# Altium footprint library Bemine-neo_PCB.PcbLib: 18 footprints (part 1 of 2)
Each footprint in its own frame and in the unit in brackets; x right, y up, seen from the top. Pads: shape width x height; smd on the part's side, far side on the other; paste and mask are expansions set on the pad; w line width, h text height; cw(c..) or ccw(c..) is an arc to the next point about the centre after c.
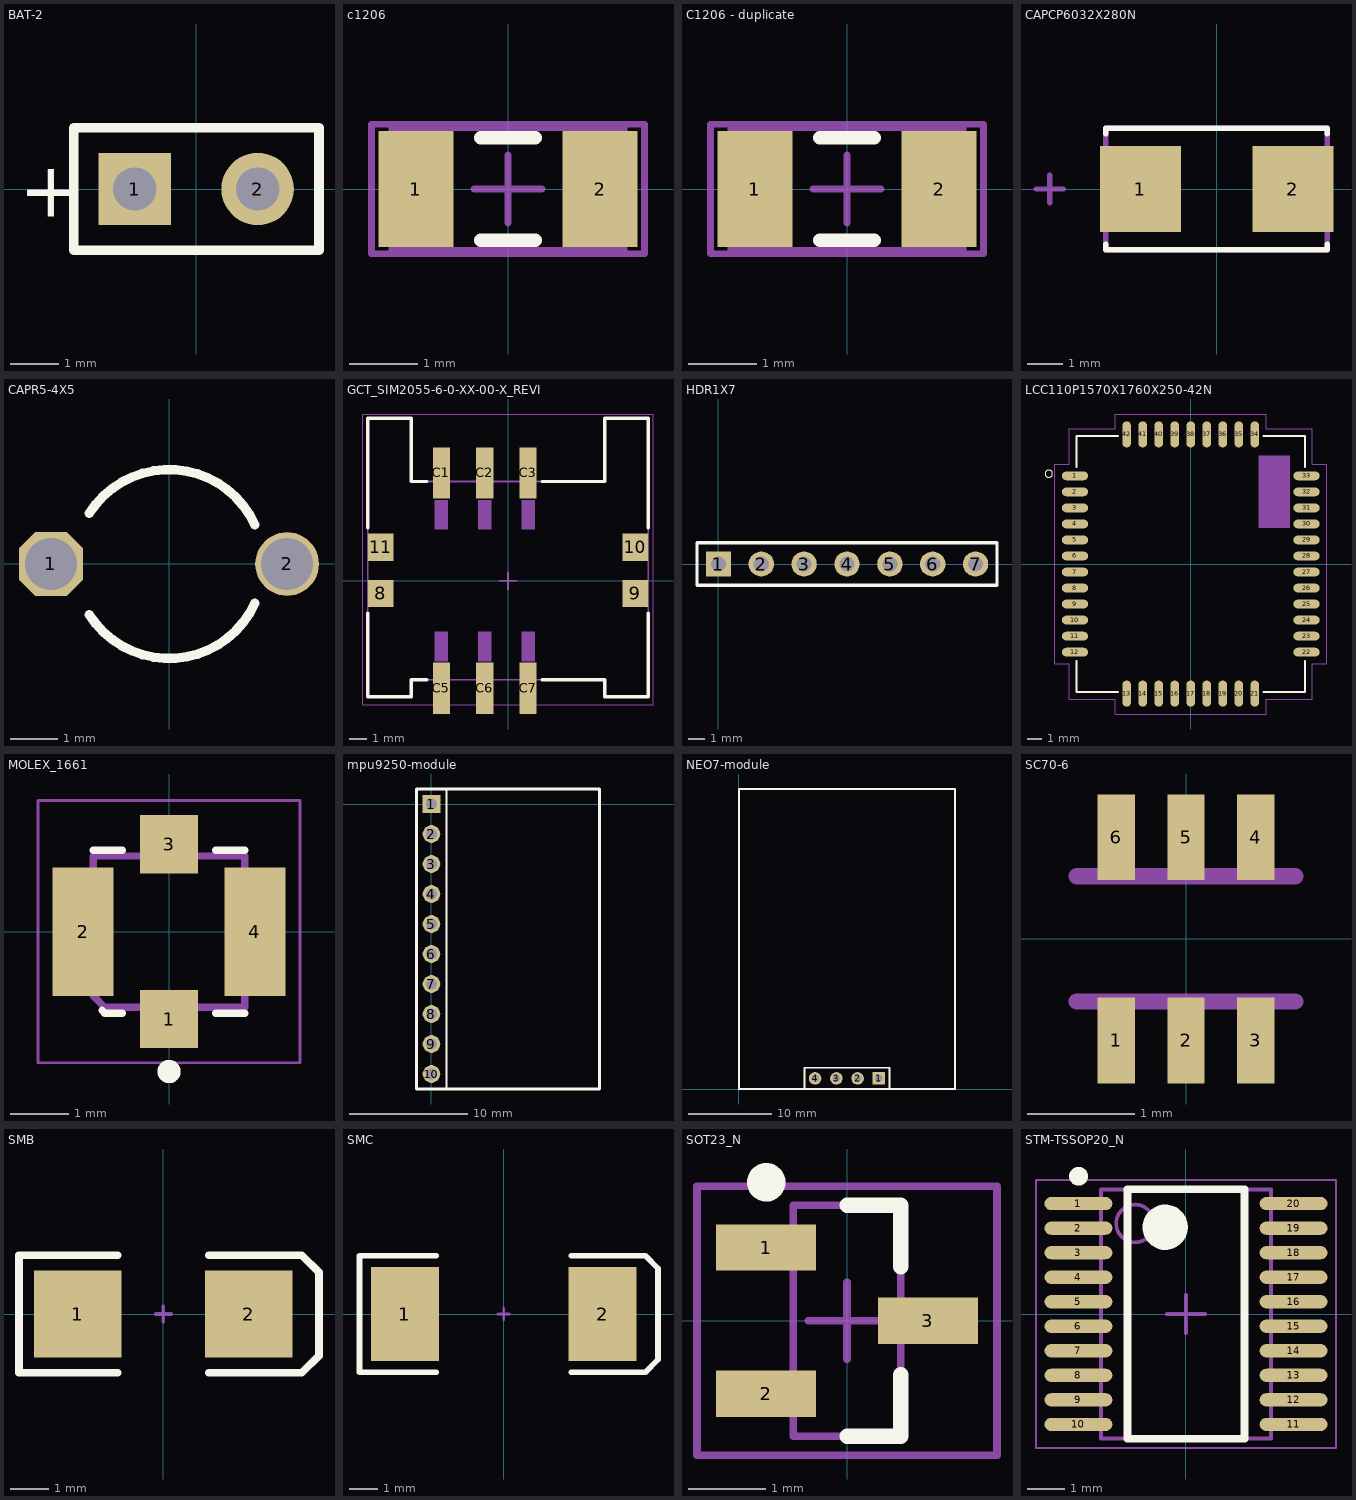
[diagram p0: the footprints below, top view; thin cyan lines are the x and y axes]

## BAT-2 [mm]
pads (2):
  rect 1.5x1.5 hole 0.9: 1(-1.27,0)
  round 1.5 hole 0.9: 2(1.27,0)
Top Overlay:
  lines w0.2: -2.54,-1.27 -2.54,1.27 2.54,1.27 2.54,-1.27 -2.54,-1.27
  text "+" at -3.67,-0.577 h1.15

## c1206 [mm]
pads (2):
  rect 1.1x1.7 smd: 1(-1.35,0) 2(1.35,0)
Top Overlay:
  lines w0.2: -0.4,-0.75 0.4,-0.75 ; -0.4,0.75 0.4,0.75
Mechanical 13:
  lines w0.1: -1.7,-0.9 1.7,-0.9 1.7,0.9 -1.7,0.9 -1.7,-0.9
Mechanical 15:
  lines w0.1: -0.5,0 0.5,0 ; 0,-0.5 0,0.5 ; -2,-0.95 2,-0.95 2,0.95 -2,0.95 -2,-0.95
3D body: height 1.3, standoff 0, extent -1.7,-0.9 1.7,0.9

## C1206 - duplicate [mm]
pads (2):
  rect 1.1x1.7 smd: 1(-1.35,0) 2(1.35,0)
Top Overlay:
  lines w0.2: -0.4,-0.75 0.4,-0.75 ; -0.4,0.75 0.4,0.75
Mechanical 13:
  lines w0.1: -1.7,-0.9 1.7,-0.9 1.7,0.9 -1.7,0.9 -1.7,-0.9
Mechanical 15:
  lines w0.1: -0.5,0 0.5,0 ; 0,-0.5 0,0.5 ; -2,-0.95 2,-0.95 2,0.95 -2,0.95 -2,-0.95
3D body: height 1.3, standoff 0, extent -1.7,-0.9 1.7,0.9

## CAPCP6032X280N [mil]
pads (2):
  rect 89x95 smd: 1(-84,0) 2(84,0)
Top Overlay:
  lines w6: -122,-61 -122,-67 122,-67 122,-61 ; -122,61 -122,67 122,67 122,61
Mechanical 1:
  lines w6: -199,0 -169,0 ; -184,-15 -184,15 ; -122,-67 -122,67 122,67 122,-67 -122,-67

## CAPR5-4X5 [mm]
pads (2):
  oct 1.35x1.35 hole 1.1: 1(-2.5,0)
  round 1.35 hole 1.1: 2(2.5,0)
Top Overlay:
  lines w0.2: -1.687,-1.075 ccw(c0,0) 1.819,-0.832 ; -1.687,1.075 cw(c0,0) 1.819,0.832

## GCT_SIM2055-6-0-XX-00-X_REVI [mm]
pads (10):
  rect 1.5x1.6 smd: 8(-7.45,-0.75) 9(7.45,-0.75) 10(7.45,1.95) 11(-7.45,1.95)
  rect 1x3 smd: C1(-3.9,6.3) C2(-1.36,6.3) C3(1.18,6.3) C5(-3.9,-6.3) C6(-1.36,-6.3) C7(1.18,-6.3)
Top Overlay:
  lines w0.2: -8.2,-1.9 -8.2,-6.8 -5.65,-6.8 -5.65,-5.8 -4.75,-5.8 ; -8.2,3.1 -8.2,9.5 -5.65,9.5 -5.65,5.8 -4.75,5.8 ; 2,-5.8 5.65,-5.8 5.65,-6.8 8.2,-6.8 8.2,-1.9 ; 2,5.8 5.65,5.8 5.65,9.5 8.2,9.5 8.2,3.1
Mechanical 4:
  lines w0.1: -8.2,-6.8 -8.2,9.5 ; -8.2,-6.8 -5.65,-6.8 ; -8.2,-6.8 -8.2,9.5 ; -8.2,-6.8 -5.65,-6.8 ; -8.2,9.5 -5.65,9.5 ; -8.2,9.5 -5.65,9.5 ; -5.65,-6.8 -5.65,-5.8 ; -5.65,-6.8 -5.65,-5.8 ; -5.65,-5.8 5.65,-5.8 ; -5.65,-5.8 5.65,-5.8 ; -5.65,5.8 -5.65,9.5 ; -5.65,5.8 5.65,5.8 ; -5.65,5.8 -5.65,9.5 ; -5.65,5.8 5.65,5.8 ; 5.65,-6.8 8.2,-6.8 ; 5.65,-6.8 5.65,-5.8 ; 5.65,-6.8 8.2,-6.8 ; 5.65,-6.8 5.65,-5.8 ; 5.65,5.8 5.65,9.5 ; 5.65,5.8 5.65,9.5 ; 5.65,9.5 8.2,9.5 ; 5.65,9.5 8.2,9.5 ; 8.2,-6.8 8.2,9.5 ; 8.2,-6.8 8.2,9.5
Mechanical 16:
  region: 0.805,-4.7 1.555,-4.7 1.555,-3 0.805,-3
  region: -1.735,3 -0.985,3 -0.985,4.7 -1.735,4.7
  region: -4.275,3 -3.525,3 -3.525,4.7 -4.275,4.7
  region: -1.735,-4.7 -0.985,-4.7 -0.985,-3 -1.735,-3
  region: 0.805,3 1.555,3 1.555,4.7 0.805,4.7
  region: -4.275,-4.7 -3.525,-4.7 -3.525,-3 -4.275,-3
  lines w0.05: -8.5,-7.25 -8.5,9.75 8.5,9.75 8.5,-7.25 -8.5,-7.25
  lines w0.1: -0.5,0 0.5,0 ; 0,-0.5 0,0.5

## HDR1X7 [mm]
pads (7):
  rect 1.5x1.5 hole 0.9: 1(0,0)
  round 1.5 hole 0.9: 2(2.54,0) 3(5.08,0) 4(7.62,0) 5(10.16,0) 6(12.7,0) 7(15.24,0)
Top Overlay:
  lines w0.2: -1.27,-1.27 -1.27,1.27 16.51,1.27 16.51,-1.27 -1.27,-1.27

## LCC110P1570X1760X250-42N [mm]
pads (42):
  oval 1.8x0.6 smd: 1(-7.95,6.05) 2(-7.95,4.95) 3(-7.95,3.85) 4(-7.95,2.75) 5(-7.95,1.65) 6(-7.95,0.55) 7(-7.95,-0.55) 8(-7.95,-1.65) 9(-7.95,-2.75) 10(-7.95,-3.85) 11(-7.95,-4.95) 12(-7.95,-6.05) 22(7.95,-6.05) 23(7.95,-4.95) 24(7.95,-3.85) 25(7.95,-2.75) 26(7.95,-1.65) 27(7.95,-0.55) 28(7.95,0.55) 29(7.95,1.65) 30(7.95,2.75) 31(7.95,3.85) 32(7.95,4.95) 33(7.95,6.05)
  oval 0.6x1.8 smd: 13(-4.4,-8.9) 14(-3.3,-8.9) 15(-2.2,-8.9) 16(-1.1,-8.9) 17(0,-8.9) 18(1.1,-8.9) 19(2.2,-8.9) 20(3.3,-8.9) 21(4.4,-8.9) 34(4.4,8.9) 35(3.3,8.9) 36(2.2,8.9) 37(1.1,8.9) 38(0,8.9) 39(-1.1,8.9) 40(-2.2,8.9) 41(-3.3,8.9) 42(-4.4,8.9)
Top Overlay:
  circle w0: c-9.75,6.2 r0.254
  lines w0.127: -7.85,-6.65 -7.85,-8.8 -5,-8.8 ; -7.85,6.65 -7.85,8.8 -5,8.8 ; 5,-8.8 7.85,-8.8 7.85,-6.65 ; 5,8.8 7.85,8.8 7.85,6.65
Mechanical 4:
  region: 4.656,7.43 6.8,7.43 6.8,2.483 4.656,2.483
  region: 4.656,7.43 6.8,7.43 6.8,2.483 4.656,2.483
Mechanical 16:
  region: 4.658,7.43 6.8,7.43 6.8,2.484 4.658,2.484
  lines w0.05: -9.35,-6.85 -8.35,-6.85 -8.35,-9.3 -5.2,-9.3 -5.2,-10.3 5.2,-10.3 5.2,-9.3 8.35,-9.3 8.35,-6.85 9.35,-6.85 9.35,6.85 8.35,6.85 8.35,9.3 5.2,9.3 5.2,10.3 -5.2,10.3 -5.2,9.3 -8.35,9.3 -8.35,6.85 -9.35,6.85 -9.35,-6.85

## MOLEX_1661 [mm]
pads (4):
  rect 1x1 smd: 1(0,-1.5) 3(0,1.5)
  rect 1.05x2.2 smd: 2(-1.475,0) 4(1.475,0)
Top Overlay:
  circle w0.2: c0,-2.4 r0.1
  lines w0.127: -1.3,1.4 -0.8,1.4 ; -1.15,-1.35 -1.1,-1.4 -0.8,-1.4 ; 0.8,-1.4 1.3,-1.4 ; 0.8,1.4 1.3,1.4
Mechanical 4:
  lines w0.127: -1.3,-1.1 -1.3,1.3 ; -1.3,-1.1 -1.1,-1.3 ; -1.3,-1.1 -1.3,1.3 ; -1.3,-1.1 -1.1,-1.3 ; -1.3,1.3 1.3,1.3 ; -1.3,1.3 1.3,1.3 ; -1.1,-1.3 1.3,-1.3 ; -1.1,-1.3 1.3,-1.3 ; 1.3,-1.3 1.3,1.3 ; 1.3,-1.3 1.3,1.3
Mechanical 16:
  lines w0.05: -2.25,-2.25 2.25,-2.25 2.25,2.25 -2.25,2.25 -2.25,-2.25

## mpu9250-module [mm]
pads (10):
  rect 1.5x1.5 hole 0.9: 1(0,0)
  round 1.5 hole 0.9: 2(0,-2.54) 3(0,-5.08) 4(0,-7.62) 5(0,-10.16) 6(0,-12.7) 7(0,-15.24) 8(0,-17.78) 9(0,-20.32) 10(0,-22.86)
Top Overlay:
  lines w0.2: -1.27,-24.13 1.27,-24.13 1.27,1.27 -1.27,1.27
  lines w0.254: -1.27,-24.13 -1.27,1.27 14.23,1.27 14.23,-24.13 -1.27,-24.13

## NEO7-module [mm]
pads (4):
  rect 1.5x1.5 hole 0.9: 1(16.71,1.27)
  round 1.5 hole 0.9: 2(14.17,1.27) 3(11.63,1.27) 4(9.09,1.27)
Top Overlay:
  lines w0.2: 7.82,0 17.98,0 17.98,2.54 7.82,2.54 7.82,0
  lines w0.254: 0,0 0,35.8 25.8,35.8 25.8,0 0,0

## SC70-6 [mm]
pads (6):
  rect 0.35x0.8 smd: 1(-0.65,-0.95) 2(0,-0.95) 3(0.65,-0.95) 4(0.65,0.95) 5(0,0.95) 6(-0.65,0.95)
Top Paste:
  region: -0.5,0.578 -0.804,0.578 -0.804,1.325 -0.5,1.325
  region: 0.15,0.577 -0.15,0.577 -0.15,1.325 0.15,1.325
  region: 0.8,0.578 0.502,0.578 0.502,1.325 0.8,1.325
  region: 0.501,-0.575 0.8,-0.575 0.8,-1.329 0.501,-1.329
  region: -0.15,-0.575 0.15,-0.575 0.15,-1.329 -0.15,-1.329
  region: -0.802,-0.575 -0.5,-0.575 -0.5,-1.329 -0.802,-1.329
Top Solder:
  region: -0.425,0.501 -0.877,0.501 -0.877,1.4 -0.425,1.4
  region: 0.225,0.5 -0.225,0.5 -0.225,1.4 0.225,1.4
  region: 0.875,0.502 0.427,0.502 0.427,1.4 0.875,1.4
  region: 0.426,-0.5 0.875,-0.5 0.875,-1.403 0.426,-1.403
  region: -0.225,-0.5 0.225,-0.5 0.225,-1.402 -0.225,-1.402
  region: -0.876,-0.5 -0.425,-0.5 -0.425,-1.402 -0.876,-1.402
Mechanical 1:
  region: -0.5,0.627 -0.803,0.627 -0.803,1.2 -0.5,1.2
  region: 0.15,0.627 -0.151,0.627 -0.151,1.2 0.15,1.2
  region: 0.8,0.627 0.501,0.627 0.501,1.2 0.8,1.2
  region: 0.501,-0.625 0.8,-0.625 0.8,-1.203 0.501,-1.203
  region: -0.802,-0.625 -0.5,-0.625 -0.5,-1.203 -0.802,-1.203
  region: -0.151,-0.625 0.15,-0.625 0.15,-1.204 -0.151,-1.204
  lines w0.152: -1.022,-0.585 1.022,-0.585 ; -1.022,0.585 1.022,0.585

## SMB [mm]
pads (2):
  rect 2.3x2.3 smd: 1(-2.25,0) 2(2.25,0)
Top Overlay:
  lines w0.2: -1.2,-1.55 -3.8,-1.55 -3.8,1.55 -1.2,1.55 ; 1.2,-1.55 3.65,-1.55 4.1,-1.1 4.1,1.1 3.65,1.55 1.2,1.55
Mechanical 1:
  lines w0.1: -0.2,0 0.2,0 ; 0,-0.2 0,0.2

## SMC [mm]
pads (2):
  rect 2.4x3.3 smd: 1(-3.475,0) 2(3.475,0)
Top Overlay:
  lines w0.2: -2.375,-2.05 -5.075,-2.05 -5.075,2.05 -2.375,2.05 ; 2.375,-2.05 4.975,-2.05 5.425,-1.6 5.425,1.6 4.975,2.055 ; 2.375,2.05 4.975,2.05
Mechanical 1:
  lines w0.1: -0.2,0 0.2,0 ; 0,-0.2 0,0.2

## SOT23_N [mm]
pads (3):
  rect 1.3x0.6 smd: 1(-1.05,0.95) 2(-1.05,-0.95) 3(1.05,0)
Top Overlay:
  circle w0.25: c-1.05,1.8 r0.125
  lines w0.2: 0,-1.5 0.7,-1.5 0.7,-0.7 ; 0,1.5 0.7,1.5 0.7,0.7
Mechanical 13:
  lines w0.1: -0.7,-1.5 0.7,-1.5 0.7,1.5 -0.7,1.5 -0.7,-1.5
Mechanical 15:
  lines w0.1: -0.5,0 0.5,0 ; 0,-0.5 0,0.5 ; -1.95,-1.75 1.95,-1.75 1.95,1.75 -1.95,1.75 -1.95,-1.75
3D body: height 1.1, standoff 0, extent -0.7,-1.5 0.7,1.5

## STM-TSSOP20_N [mm]
pads (20):
  oval 1.8x0.35 smd: 1(-2.85,2.925) 2(-2.85,2.275) 3(-2.85,1.625) 4(-2.85,0.975) 5(-2.85,0.325) 6(-2.85,-0.325) 7(-2.85,-0.975) 8(-2.85,-1.625) 9(-2.85,-2.275) 10(-2.85,-2.925) 11(2.85,-2.925) 12(2.85,-2.275) 13(2.85,-1.625) 14(2.85,-0.975) 15(2.85,-0.325) 16(2.85,0.325) 17(2.85,0.975) 18(2.85,1.625) 19(2.85,2.275) 20(2.85,2.925)
Top Overlay:
  circle w0.6: c-0.55,2.3 r0.3
  circle w0.25: c-2.85,3.65 r0.125
  lines w0.2: -1.55,-3.3 1.55,-3.3 1.55,3.3 -1.55,3.3 -1.55,-3.3
Mechanical 13:
  circle w0.1: c-1.35,2.4 r0.5
  lines w0.1: -2.25,-3.3 2.25,-3.3 2.25,3.3 -2.25,3.3 -2.25,-3.3
Mechanical 15:
  lines w0.05: -3.975,-3.55 3.975,-3.55 3.975,3.55 -3.975,3.55 -3.975,-3.55
  lines w0.1: -0.5,0 0.5,0 ; 0,-0.5 0,0.5
3D body: height 1.2, standoff 0.05, extent -2.25,-3.3 2.25,3.3